# Altium schematic symbol library 120nH_inductor_0805_Components - 15.03.22 - 13.48.SchLib: 1 symbol
Pins are listed as number, name and electrical type; pins without a type are passive.

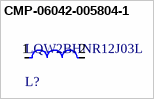
[diagram p0: symbol CMP-06042-005804-1]

## CMP-06042-005804-1
designator L?, comment LQW2BHNR12J03L
Wire Wound RF Inductor 120nH ±5% 320mA 0.4Ω 0805 (2015); Shielding: Unshielded; DC Resistance (DCR): 400mR; Self Resonant Frequency: 750MHz; Q Factor: 40; Core Material: Non-Magnetic; Test Frequency: 100MHz; Width: 1.5mm; Case Code (Imperial): 0805; Weight: 0.000317oz; Length: 0.079inch; Resistor Type: Wirewound; Min Operating Temperature: -55°C; Inductance: 120nH; Max Operating Temperature: 85°C; Termination: SMD/SMT; DC Current: 320mA; Packaging: Tape and Reel; Tolerance: 5%; Height - Seated (Max): 0.07inch; Package Quantity: 2000; Max DC Current: 320mA; Radiation Hardening: No; Case/Package: 0805; Military Standard: Not; Current Rating: 320mA; Depth: 1.7mm; Height: 1.7mm; Case Code (Metric): 2012; Mount: Surface Mount
footprint FP-LQW2BHN_03-MFG
pins: 1, 2